# EAGLE library part MAX17047 (library chips)
1-Cell Fuel Gauge with ModelGauge m3
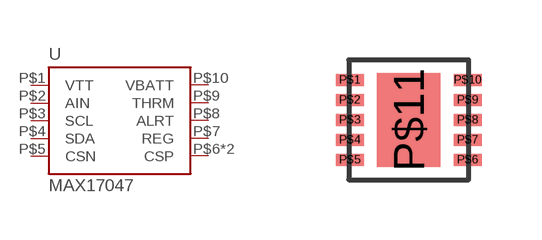
[diagram p71: symbol with the pads of TDFN-10; footprint TDFN-10]

Designator prefix U

## MAX17047 (MOUSER: 700-MAX17047G+)  [TDFN-10]
P$1  VTT
P$2  AIN
P$3  SCL
P$4  SDA
P$5  CSN
P$6  CSP
P$7  REG
P$8  ALRT
P$9  THRM
P$10  VBATT
P$11  CSP

## Footprint TDFN-10 (pad centres in mm)
smd 0.7 x 0.3: P$1 -1.475,1; P$2 -1.475,0.5; P$3 -1.475,0; P$4 -1.475,-0.5; P$5 -1.475,-1; P$6 1.475,-1; P$7 1.475,-0.5; P$8 1.475,0; P$9 1.475,0.5; P$10 1.475,1
smd 1.58 x 2.35: P$11 0,0